# Altium schematic symbol library DS480B.SchLib: 2 symbols
Pins are listed as number, name and electrical type; pins without a type are passive.

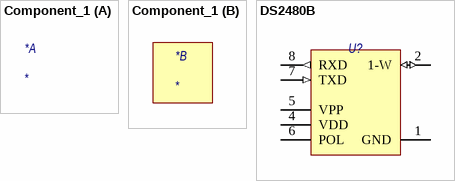
[diagram p0: symbols Component_1 to DS2480B]

## Component_1
designator *

## DS2480B
designator U?  (value not drawn)
Serial to 1-Wire Line Driver; Потребление, Вт: 0.025; Наименование: DS2480B; Назначение: Serial to 1-Wire Line Driver
footprint SOIC-8
pins: 1 GND (power), 2 1-W (io), 4 VDD (power), 5 VPP (power), 6 POL (power), 7 TXD (in), 8 RXD (out)